# EAGLE library part EC12PLGR (library Eagle3D-Encoder)
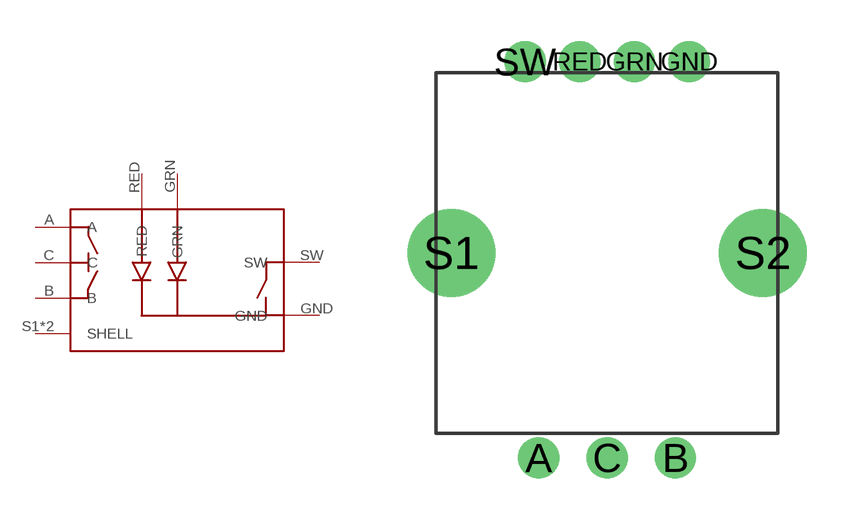
[diagram p2: symbol with the pads of TOP_UN_RG; footprint TOP_UN_RG]

Designator prefix -

## EC12PLGR  [TOP_UN_RG]
A  A
B  B
C  C
GND  GND
GRN  GRN
RED  RED
S1  SHELL
S2  SHELL
SW  SW

## Footprint TOP_UN_RG (pad centres in mm)
drill 1: A -2.5,-7.5; B 2.5,-7.5; C 0,-7.5; GND 3,7; GRN 1,7; RED -1,7; SW -3,7
drill 2.2: S1 -5.7,0; S2 5.7,0